# Altium integrated library WE-SL_rev15a.intlib: 7 symbols
Pins are listed as number, name and electrical type; pins without a type are passive.

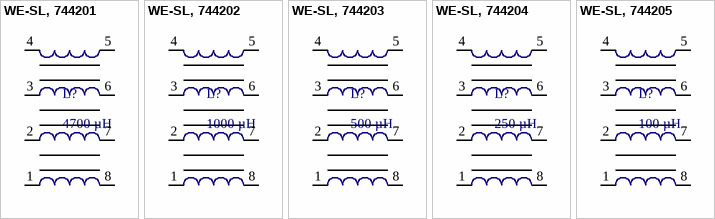
[diagram p0: symbols WE-SL, 744201 to WE-SL, 744205]

## WE-SL, 744201
designator L?, comment 4700 µH
SMD Common Mode Line Filter WE-SL, L=4700 µH; partNo: 744201; Manufacturer: Würth Elektronik eiSos GmbH; Inductance: 4700 µH; ComponentLink1Description: Manufacturer; ComponentLink1URL: http://www.we-online.de; Created by: Christin Zierenner; Created Date: June 2010; ComponentLink2Description: Datasheet; ComponentLink2URL: http://www.we-online.de/katalog/media/pdf/744201.pdf
footprint WE-SL (SMD Inductor, 8-Leads, Body 10,5x9,7mm)
pins: 1, 2, 3, 4, 5, 6, 7, 8

## WE-SL, 744202
designator L?, comment 1000 µH
SMD Common Mode Line Filter WE-SL, L=1000 µH; partNo: 744202; Manufacturer: Würth Elektronik eiSos GmbH; Inductance: 1000 µH; ComponentLink1Description: Manufacturer; ComponentLink1URL: http://www.we-online.de; Created by: Christin Zierenner; Created Date: November 2009; ComponentLink2Description: Datasheet; ComponentLink2URL: http://www.we-online.de/katalog/media/pdf/744202.pdf
footprint WE-SL (SMD Inductor, 8-Leads, Body 10,5x9,7mm)
pins: 1, 2, 3, 4, 5, 6, 7, 8

## WE-SL, 744203
designator L?, comment 500 µH
SMD Common Mode Line Filter WE-SL, L=500 µH; partNo: 744203; Manufacturer: Würth Elektronik eiSos GmbH; Inductance: 500 µH; ComponentLink1Description: Manufacturer; ComponentLink1URL: http://www.we-online.de; Created by: Christin Zierenner; Created Date: November 2009; ComponentLink2Description: Datasheet; ComponentLink2URL: http://www.we-online.de/katalog/media/pdf/744203.pdf
footprint WE-SL (SMD Inductor, 8-Leads, Body 10,5x9,7mm)
pins: 1, 2, 3, 4, 5, 6, 7, 8

## WE-SL, 744204
designator L?, comment 250 µH
SMD Common Mode Line Filter WE-SL, L=250 µH; partNo: 744204; Manufacturer: Würth Elektronik eiSos GmbH; Inductance: 250 µH; ComponentLink1Description: Manufacturer; ComponentLink1URL: http://www.we-online.de; Created by: Christin Zierenner; Created Date: November 2009; ComponentLink2Description: Datasheet; ComponentLink2URL: http://www.we-online.de/katalog/media/pdf/744204.pdf
footprint WE-SL (SMD Inductor, 8-Leads, Body 10,5x9,7mm)
pins: 1, 2, 3, 4, 5, 6, 7, 8

## WE-SL, 744205
designator L?, comment 100 µH
SMD Common Mode Line Filter WE-SL, L=100 µH; partNo: 744205; Manufacturer: Würth Elektronik eiSos GmbH; Inductance: 100 µH; ComponentLink1Description: Manufacturer; ComponentLink1URL: http://www.we-online.de; Created by: Christin Zierenner; Created Date: November 2009; ComponentLink2Description: Datasheet; ComponentLink2URL: http://www.we-online.de/katalog/media/pdf/744205.pdf
footprint WE-SL (SMD Inductor, 8-Leads, Body 10,5x9,7mm)
pins: 1, 2, 3, 4, 5, 6, 7, 8


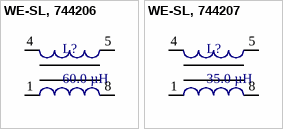
[diagram p1: symbols WE-SL, 744206 to WE-SL, 744207]

## WE-SL, 744206
designator L?, comment 60.0 µH
SMD Common Mode Line Filter WE-SL, L=60.0 µH; partNo: 744206; Manufacturer: Würth Elektronik eiSos GmbH; Inductance: 60.0 µH; ComponentLink1Description: Manufacturer; ComponentLink1URL: http://www.we-online.de; Created by: Christin Zierenner; Created Date: November 2009; ComponentLink2Description: Datasheet; ComponentLink2URL: http://www.we-online.de/katalog/media/pdf/744206.pdf
footprint WE-SL (SMD Inductor, 8-Leads, Body 10,5x9,7mm)
pins: 1, 4, 5, 8

## WE-SL, 744207
designator L?, comment 35.0 µH
SMD Common Mode Line Filter WE-SL, L=35.0 µH; partNo: 744207; Manufacturer: Würth Elektronik eiSos GmbH; Inductance: 35.0 µH; ComponentLink1Description: Manufacturer; ComponentLink1URL: http://www.we-online.de; Created by: Christin Zierenner; Created Date: November 2009; ComponentLink2Description: Datasheet; ComponentLink2URL: http://www.we-online.de/katalog/media/pdf/744207.pdf
footprint WE-SL (SMD Inductor, 8-Leads, Body 10,5x9,7mm)
pins: 1, 4, 5, 8